# EAGLE library part LT8410 (library LT8410)
Linear Technology: LT8410/LT8410-1, Ultralow Power Boost Converter with Output Disconnect
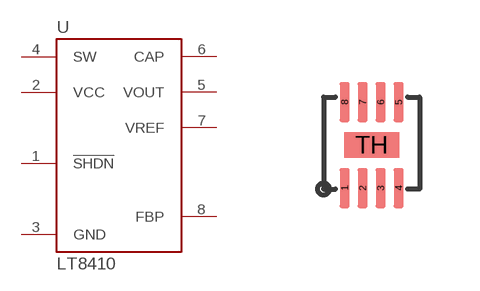
[diagram p0: symbol with the pads of DFN8-4X4; footprint DFN8-4X4]

Designator prefix U

## LT8410 (DIGIKEY: LT8410EDC#TRMPBFCT-ND)  [DFN8-4X4]
1  !SHDN
2  VCC
3  GND
4  SW
5  VOUT
6  CAP
7  VREF
8  FBP

## Footprint DFN8-4X4 (pad centres in mm)
DFN8 4x4 mm DRM (S-PDSO-N8) Source: opa277.pdf
smd 0.25 x 1: 1 -0.675,-1.075; 2 -0.225,-1.075; 3 0.225,-1.075; 4 0.675,-1.075; 5 0.675,1.075; 6 0.225,1.075; 7 -0.225,1.075; 8 -0.675,1.075
smd 1.37 x 0.64: TH 0,0